# EAGLE library part L2034-B (library abi-lcd)
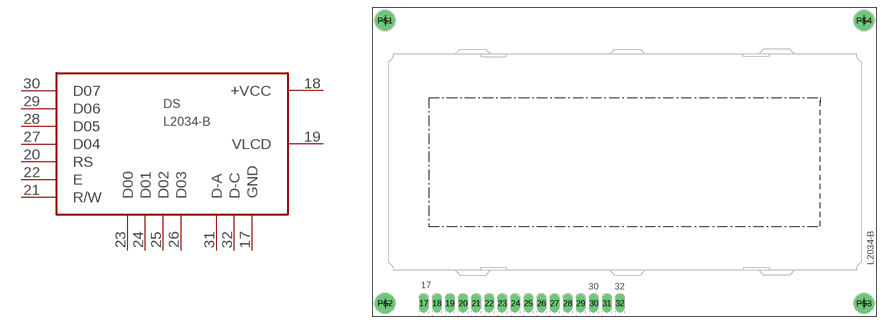
[diagram p3: symbol with the pads of L2034-B; footprint L2034-B]

Designator prefix DS

## L2034-B  [L2034-B]
17  GND
18  +VCC
19  VLCD
20  RS
21  R/W
22  E
23  D00
24  D01
25  D02
26  D03
27  D04
28  D05
29  D06
30  D07
31  D-A
32  D-C

## Footprint L2034-B (pad centres in mm)
drill 1.016 pad 1.778 long: 17 -35.573,-30.455; 18 -33.033,-30.455; 19 -30.493,-30.455; 20 -27.953,-30.455; 21 -25.413,-30.455; 22 -22.873,-30.455; 23 -20.333,-30.455; 24 -17.793,-30.455; 25 -15.253,-30.455; 26 -12.713,-30.455; 27 -10.173,-30.455; 28 -7.633,-30.455; 29 -5.093,-30.455; 30 -2.553,-30.455; 31 -0.013,-30.455; 32 2.527,-30.455
drill 2.54 pad 3.81 round: P$1 -43.066,24.524; P$2 -43.066,-30.467; P$3 49.936,-30.48; P$4 49.936,24.524